# Altium footprint library UMLP-10.PcbLib: 1 footprints
Each footprint in its own frame and in the unit in brackets; x right, y up, seen from the top. Pads: shape width x height; smd on the part's side, far side on the other; paste and mask are expansions set on the pad; w line width, h text height; cw(c..) or ccw(c..) is an arc to the next point about the centre after c.
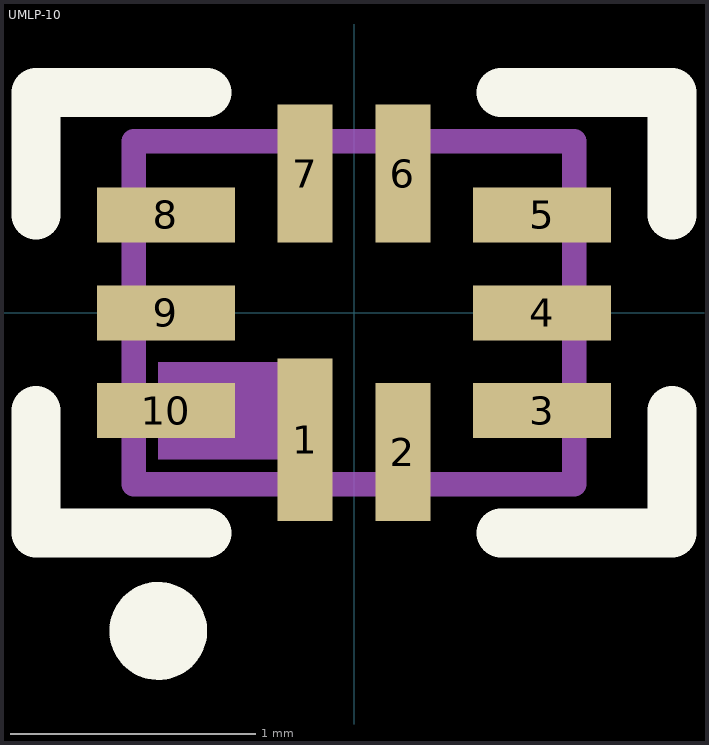
[diagram p0: the footprint, top view; thin cyan lines are the x and y axes]

## UMLP-10 [mm]
pads (10):
  rect 0.225x0.663 smd mask+0.051: 1(-0.2,-0.519)
  rect 0.225x0.563 smd mask+0.051: 2(0.2,-0.569) 6(0.2,0.569) 7(-0.2,0.569)
  rect 0.563x0.225 smd mask+0.051: 3(0.768,-0.4) 4(0.768,0) 5(0.768,0.4) 8(-0.768,0.4) 9(-0.768,0) 10(-0.768,-0.4)
Top Overlay:
  circle w0.2: c-0.8,-1.3 r0.1
  lines w0.2: -1.3,-0.4 -1.3,-0.9 -0.6,-0.9 ; -1.3,0.4 -1.3,0.9 -0.6,0.9 ; 0.6,-0.9 1.3,-0.9 1.3,-0.4 ; 0.6,0.9 1.3,0.9 1.3,0.4
Mechanical 13:
  region: -0.3,-0.6 -0.3,-0.2 -0.8,-0.2 -0.8,-0.6
  lines w0.1: -0.9,-0.7 0.9,-0.7 0.9,0.7 -0.9,0.7 -0.9,-0.7